# EAGLE library part MAX32664GWEA+T (library MAX32664GWEA)
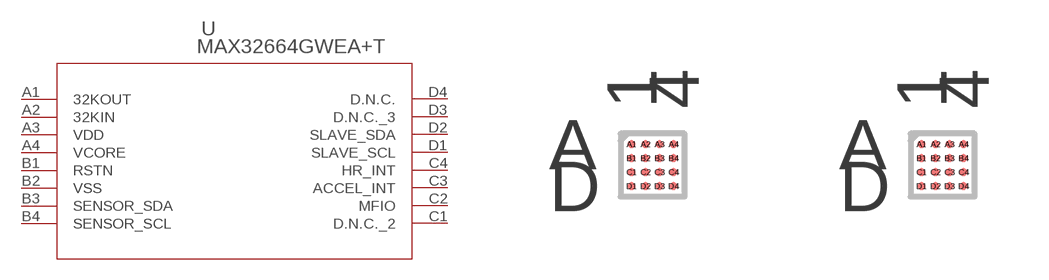
[diagram p0: symbol with the pads of 21-100241A_W161K1+1_MXM; footprints 21-100241A_W161K1+1_MXM, 21-100241A_W161K1+1_MXM-M]

Designator prefix U

## MAX32664GWEA+T21-100241A_W161K1+1_MXM (Copyright: Copyright (C) 2024 Ultra Librarian. All rights reserved.; Manufacturer_Part_Number: MAX32664GWEA+T; Mfr_Name: Analog Devices / Maxim Integrated)  [21-100241A_W161K1+1_MXM]
A1  32KOUT  out
A2  32KIN
A3  VDD  pwr
A4  VCORE  pas
B1  RSTN  pas
B2  VSS  pas
B3  SENSOR_SDA  pas
B4  SENSOR_SCL  pas
C1  D.N.C._2
C2  MFIO  pas
C3  ACCEL_INT  pas
C4  HR_INT  pas
D1  SLAVE_SCL  pas
D2  SLAVE_SDA  pas
D3  D.N.C._3
D4  D.N.C.

## MAX32664GWEA+T21-100241A_W161K1+1_MXM-M (Copyright: Copyright (C) 2024 Ultra Librarian. All rights reserved.; Manufacturer_Part_Number: MAX32664GWEA+T; Mfr_Name: Analog Devices / Maxim Integrated)  [21-100241A_W161K1+1_MXM-M]
Pads as for 21-100241A_W161K1+1_MXM

## MAX32664GWEA+T21-100241A_W161K1+1_MXM-L (Copyright: Copyright (C) 2024 Ultra Librarian. All rights reserved.; Manufacturer_Part_Number: MAX32664GWEA+T; Mfr_Name: Analog Devices / Maxim Integrated)  [21-100241A_W161K1+1_MXM-L]
Pads as for 21-100241A_W161K1+1_MXM

## Footprint 21-100241A_W161K1+1_MXM (pad centres in mm)
smd 0.203 x 0.203: A1 -0.525,0.525; A2 -0.175,0.525; A3 0.175,0.525; A4 0.525,0.525; B1 -0.525,0.175; B2 -0.175,0.175; B3 0.175,0.175; B4 0.525,0.175; C1 -0.525,-0.175; C2 -0.175,-0.175; C3 0.175,-0.175; C4 0.525,-0.175; D1 -0.525,-0.525; D2 -0.175,-0.525; D3 0.175,-0.525; D4 0.525,-0.525

## Footprint 21-100241A_W161K1+1_MXM-M (pad centres in mm)
smd 0.203 x 0.203: A1 -0.525,0.525; A2 -0.175,0.525; A3 0.175,0.525; A4 0.525,0.525; B1 -0.525,0.175; B2 -0.175,0.175; B3 0.175,0.175; B4 0.525,0.175; C1 -0.525,-0.175; C2 -0.175,-0.175; C3 0.175,-0.175; C4 0.525,-0.175; D1 -0.525,-0.525; D2 -0.175,-0.525; D3 0.175,-0.525; D4 0.525,-0.525

## Footprint 21-100241A_W161K1+1_MXM-L (pad centres in mm)
smd 0.203 x 0.203: A1 -0.525,0.525; A2 -0.175,0.525; A3 0.175,0.525; A4 0.525,0.525; B1 -0.525,0.175; B2 -0.175,0.175; B3 0.175,0.175; B4 0.525,0.175; C1 -0.525,-0.175; C2 -0.175,-0.175; C3 0.175,-0.175; C4 0.525,-0.175; D1 -0.525,-0.525; D2 -0.175,-0.525; D3 0.175,-0.525; D4 0.525,-0.525